# Altium schematic symbol library 2200980271.SchLib: 1 symbol
Pins are listed as number, name and electrical type; pins without a type are passive.

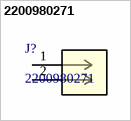
[diagram p0: symbol 2200980271]

## 2200980271
designator J?
1.25mm Pitch, Micro-Lock Plus PCB Header, Single Row, Right-Angle, Through Hole, Tin-Bismuth Plating, Positive Lock, 2 Circuits, Black; Manufacturer_Name: Molex Connector Corporation; Copyright: Copyright (C) 2026 Ultra Librarian. All rights reserved.; Manufacturer_Part_Number: 2200980271; RefDes: RefDes; Type: Type
footprint CONN_2200980000-SD_02P_MOL
pins: 1, 2